# Altium schematic symbol library LM358DR.SCHLIB: 1 symbol
Pins are listed as number, name and electrical type; pins without a type are passive.

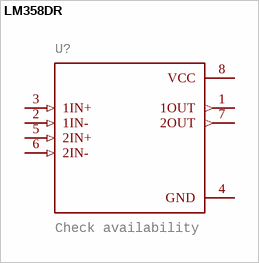
[diagram p0: symbol LM358DR]

## LM358DR
designator U?, comment Check availability
GateName_1: A; SymbolName_1: LM358DR; MF: Texas Instruments; Description: Dual, 30-V, 700-kHz operational amplifier; LibraryName: LM358DR; DeviceSetName: LM358DR; Package: SOIC127P599X175-8N; Package: SOIC-8 Texas Instruments; Price: None; Check_prices: https://www.snapeda.com/parts/LM358DR/Texas+Instruments/view-part/?ref=eda; SnapEDA_Link: https://www.snapeda.com/parts/LM358DR/Texas+Instruments/view-part/?ref=snap; MP: LM358DR; Availability: In Stock; Purchase-URL: https://www.snapeda.com/api/url_track_click_mouser/?unipart_id=6639&manufacturer=Texas Instruments&part_name=LM358DR&search_term=lm358dr
footprint SOIC127P599X175-8N
pins: 1 1OUT (out), 2 1IN- (in), 3 1IN+ (in), 4 GND (power), 5 2IN+ (in), 6 2IN- (in), 7 2OUT (out), 8 VCC (power)